# Altium schematic symbol library CM1223_ESD.SchLib: 1 symbol
Pins are listed as number, name and electrical type; pins without a type are passive.

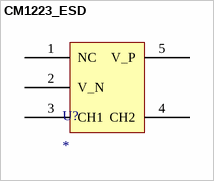
[diagram p0: symbol CM1223_ESD]

## CM1223_ESD
designator U?
footprint CM1223_ESD
pins: 1 NC, 2 V_N, 3 CH1, 4 CH2, 5 V_P